# Altium schematic symbol library DIP.SchLib: 12 symbols
Pins are listed as number, name and electrical type; pins without a type are passive.

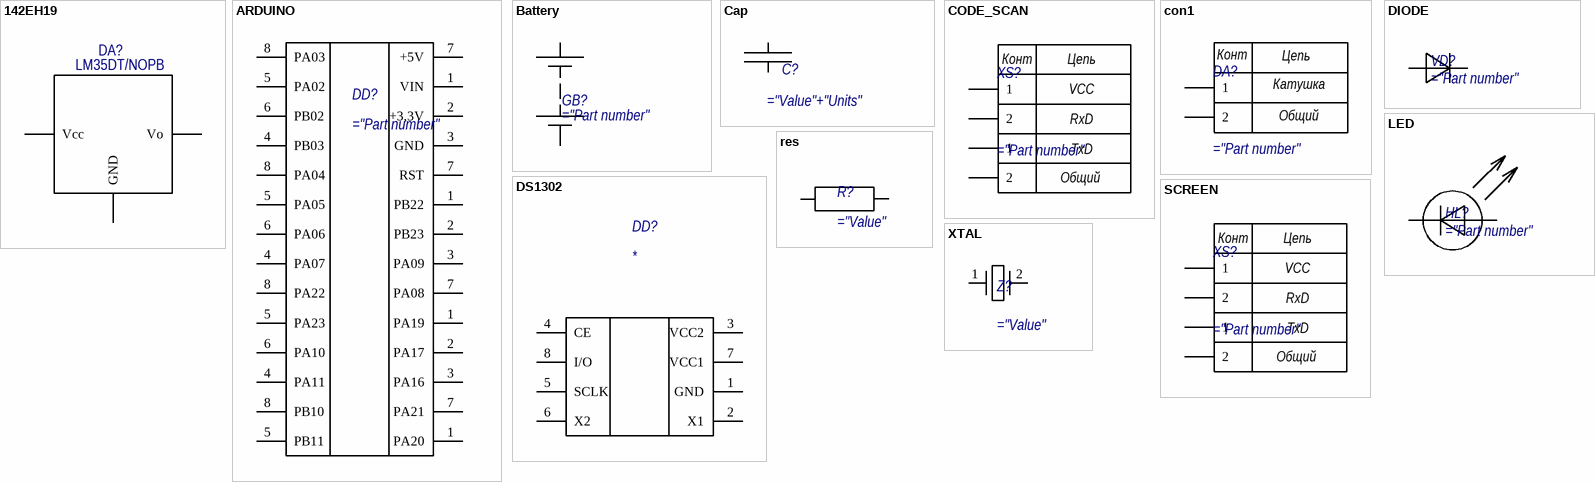
[diagram p0: symbols 142ЕН19 to XTAL]

## 142ЕН19
designator DA?, comment LM35DT/NOPB
footprint TO247 (3-Lead Plastic TO-247)
footprint TO220
pins: ADJ GND, K Vo, Vcc

## ARDUINO
designator DD?
pins: 1 VIN, 1 PB22, 1 PA19, 1 PA20, 2 +3,3V, 2 PB23, 2 PA17, 3 GND, 3 PA09, 3 PA16, 4 PB03, 4 PA07, 4 PA11, 5 PA02, 5 PA05, 5 PA23, 5 PB11, 6 PB02, 6 PA06, 6 PA10, 7 +5V, 7 RST, 7 PA08, 7 PA21, 8 PA03, 8 PA04, 8 PA22, 8 PB10

## Battery
designator GB?
pins: 1 +, 2 -
1 alternate drawing of the same symbol

## Cap
designator C?
signal-integrity model Cap
pins: 1, 2

## CODE_SCAN
designator XS?
pins: G 2, G 2, I 1, I 1
text: Конт; Цепь; VCC; RxD; TxD; Общий

## con1
designator DA?
pins: G 2, I 1
text: Конт; Цепь; Катушка; Общий

## DIODE
designator VD?
pins: A, C

## DS1302
designator DD?
pins: 1 GND, 2 X1, 3 VCC2, 4 CE, 5 SCLK, 6 X2, 7 VCC1, 8 I/O

## LED
designator HL?
pins: 1 A, 2 C
1 alternate drawing of the same symbol

## res
designator R?
signal-integrity model Res
pins: 1, 2

## SCREEN
designator XS?
pins: G 2, G 2, I 1, I 1
text: Конт; Цепь; VCC; RxD; TxD; Общий

## XTAL
designator Z?
pins: 1 OSC1, 2 OSC2